# EAGLE library part TEENSYSMALL (library general)
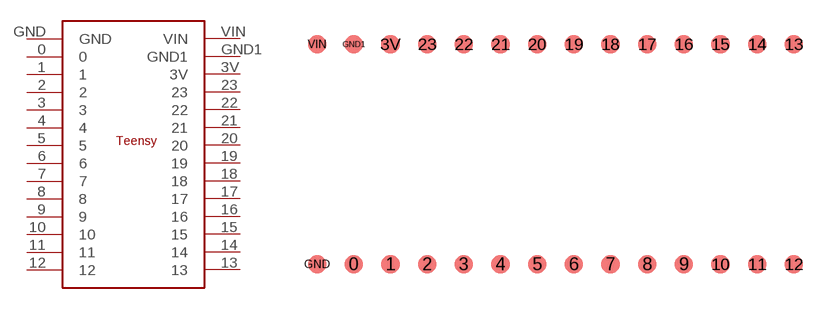
[diagram p3: symbol with the pads of TEENSYSMALL; footprint TEENSYSMALL]

Designator prefix -

## TEENSYSMALL  [TEENSYSMALL]
0  0
1  1
2  2
3  3
3V  3V
4  4
5  5
6  6
7  7
8  8
9  9
10  10
11  11
12  12
13  13
14  14
15  15
16  16
17  17
18  18
19  19
20  20
21  21
22  22
23  23
GND  GND
GND1  GND1
VIN  VIN

## Footprint TEENSYSMALL (pad centres in mm)
smd 1.27 x 1.27: 0 -12.7,-7.62; 1 -10.16,-7.62; 2 -7.62,-7.62; 3 -5.08,-7.62; 3V -10.16,7.62; 4 -2.54,-7.62; 5 0,-7.62; 6 2.54,-7.62; 7 5.08,-7.62; 8 7.62,-7.62; 9 10.16,-7.62; 10 12.7,-7.62; 11 15.24,-7.62; 12 17.78,-7.62; 13 17.78,7.62; 14 15.24,7.62; 15 12.7,7.62; 16 10.16,7.62; 17 7.62,7.62; 18 5.08,7.62; 19 2.54,7.62; 20 0,7.62; 21 -2.54,7.62; 22 -5.08,7.62; 23 -7.62,7.62; GND -15.24,-7.62; GND1 -12.7,7.62; VIN -15.24,7.62